# EAGLE library part RGB_LCD (library Pocket_Bucket)
GWT-C1627A-RGB
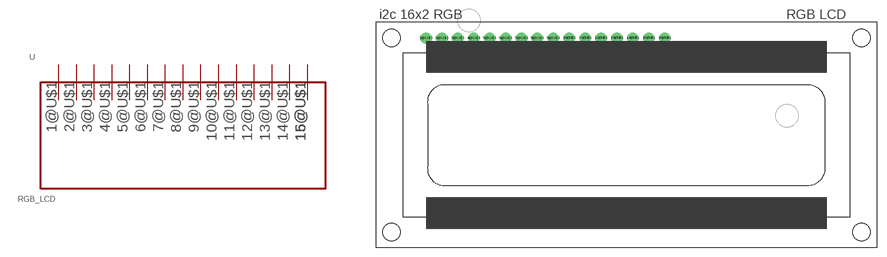
[diagram p0: symbol with the pads of ADAFRUIT_RGB_LCD; footprint ADAFRUIT_RGB_LCD]

Designator prefix -

## RGB_LCD  [ADAFRUIT_RGB_LCD]
1@U$1  VSS
2@U$1  VDD
3@U$1  V0
4@U$1  RS
5@U$1  RW
6@U$1  E
7@U$1  DB0
8@U$1  DB1
9@U$1  DB2
10@U$1  DB3
11@U$1  DB4
12@U$1  DB5
13@U$1  DB6
14@U$1  DB7
15@U$1  A
16@U$1  K

## Footprint ADAFRUIT_RGB_LCD (pad centres in mm)
Package generated by make-group2pac.ulp from: C:/Users/melen/Downloads/adafruit_rgblcdshield.brd at: 12/10/2023 10:04 AM
drill 1 pad 1.778: 1@U$1 8.386,48.012; 2@U$1 10.926,48.012; 3@U$1 13.466,48.012; 4@U$1 16.006,48.012; 5@U$1 18.546,48.012; 6@U$1 21.086,48.012; 7@U$1 23.626,48.012; 8@U$1 26.166,48.012; 9@U$1 28.706,48.012; 10@U$1 31.246,48.012; 11@U$1 33.786,48.012; 12@U$1 36.326,48.012; 13@U$1 38.866,48.012; 14@U$1 41.406,48.012; 15@U$1 43.946,48.012; 16@U$1 46.486,48.012
hole 2.8 at 2.886,17.012
hole 2.8 at 2.886,48.012
hole 2.8 at 77.886,48.012
hole 2.8 at 77.886,17.012